# Altium footprint library Diode_PcbLib.PcbLib: 12 footprints
Each footprint in its own frame and in the unit in brackets; x right, y up, seen from the top. Pads: shape width x height; smd on the part's side, far side on the other; paste and mask are expansions set on the pad; w line width, h text height; cw(c..) or ccw(c..) is an arc to the next point about the centre after c.
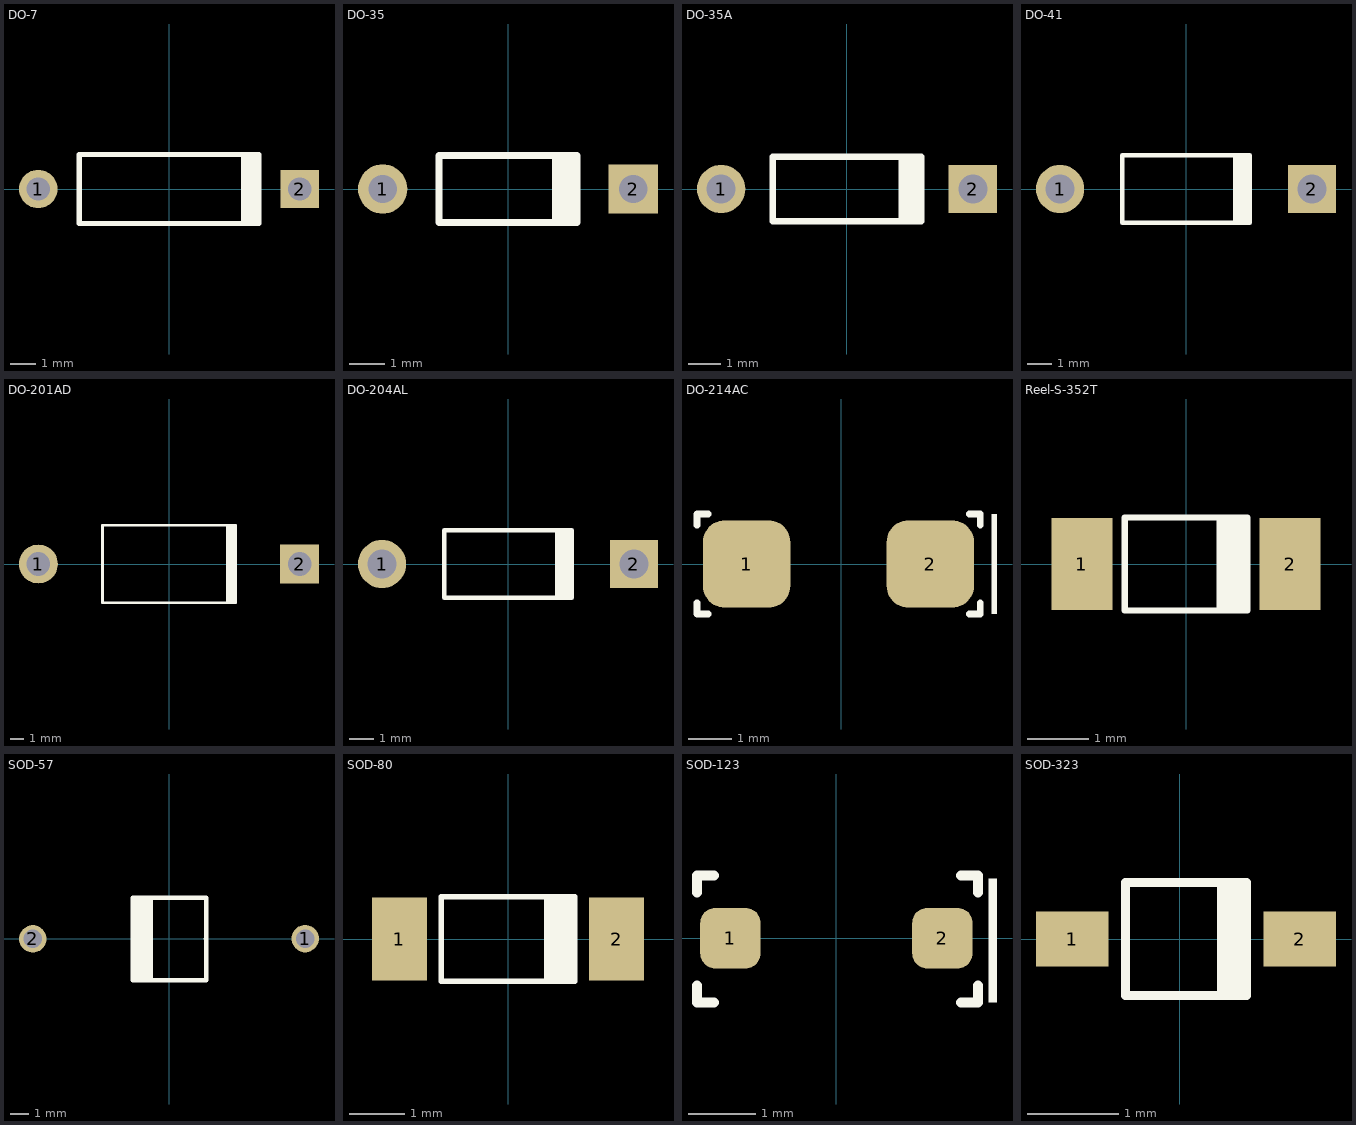
[diagram p0: the footprints below, top view; thin cyan lines are the x and y axes]

## DO-7 [mm] "Diode, Axial; Body 7 x 2.7 mm (LxDia. max), Lead Dia. 0.53 mm (max)"
height 2.7
pads (2):
  round 1.5 hole 0.9: 1(-5.1,0)
  rect 1.5x1.5 hole 0.9: 2(5.1,0)
Top Overlay:
  rectangle: 2.8,-1.35 3.6,1.35
  lines w0.2: 3.5,-1.35 -3.5,-1.35 -3.5,1.35 3.5,1.35

## DO-35 [mm] "Diode, Axial; Body 3.8 x 1.9 mm (LxDia. max), Lead Dia. 0.53 mm (max)"
height 1.9
pads (2):
  round 1.4 hole 0.8: 1(-3.55,0)
  rect 1.4x1.4 hole 0.8: 2(3.55,0)
Top Overlay:
  rectangle: 1.25,-0.95 2.05,0.95
  lines w0.2: 1.95,-0.95 -1.95,-0.95 -1.95,0.95 1.95,0.95
3D body: height 2, standoff -4.5, extent -3.75,-1 3.75,1

## DO-35A [mm] "Diode, Axial; Body 4.6 x 1.9 mm (LxDia. max), Lead Dia. 0.53 mm (max)"
height 2
pads (2):
  round 1.5 hole 0.9: 1(-3.9,0)
  rect 1.5x1.5 hole 0.9: 2(3.9,0)
Top Overlay:
  rectangle: 1.6,-1 2.4,1
  lines w0.2: 2.3,-1 -2.3,-1 -2.3,1 2.3,1

## DO-41 [mm] "Diode, Axial; Body 5.2 x 2.7 mm (LxDia. max), Lead Dia. 0.86 mm (max)"
height 2.8
pads (2):
  round 2 hole 1.2: 1(-5.23,0)
  rect 2x2 hole 1.2: 2(5.23,0)
Top Overlay:
  rectangle: 1.95,-1.4 2.75,1.4
  lines w0.2: 2.65,-1.4 -2.65,-1.4 -2.65,1.4 2.65,1.4
3D body: height 2.52, standoff -4.23, extent -5.8,-1.25 5.8,1.25

## DO-201AD [mm] "Diode, Axial; Body 9.5 x 5.6 mm (LxDia. max), Lead Dia. 1.32 mm (max)"
height 5.6
pads (2):
  round 2.8 hole 1.7: 1(-9.42,0)
  rect 2.8x2.8 hole 1.7: 2(9.42,0)
Top Overlay:
  rectangle: 4.1,-2.8 4.9,2.8
  lines w0.2: 4.8,-2.8 -4.8,-2.8 -4.8,2.8 4.8,2.8

## DO-204AL [mm] "Diode, Axial; Body 5.2 x 2.7 mm (LxDia. max), Lead Dia. 0.86 mm (max)"
height 2.7
pads (2):
  round 2 hole 1.2: 1(-5.23,0)
  rect 2x2 hole 1.2: 2(5.23,0)
Top Overlay:
  rectangle: 1.95,-1.4 2.75,1.4
  lines w0.2: 2.65,-1.4 -2.65,-1.4 -2.65,1.4 2.65,1.4
3D body: height 2.52, standoff -4.23, extent -5.8,-1.25 5.8,1.25

## DO-214AC [mm]
pads (2):
  rrect50% 2x2 smd: 1(-2.168,0) 2(2.032,0)
Top Overlay:
  rectangle: 3.429,-1.143 3.556,1.143
  lines w0.15: -3.302,-0.889 -3.302,-1.143 -3.048,-1.143 ; -3.302,0.889 -3.302,1.143 -3.048,1.143 ; 2.921,-1.143 3.175,-1.143 3.175,-0.889 ; 2.921,1.143 3.175,1.143 3.175,0.889
3D body: height 2.4, standoff 0, extent -2.6,-1.3 2.6,1.3

## Reel-S-352T [mm] "整體面積(3.5mm * 1.6mm), 材料部份(2.6mm * 1.6mm)"
pads (2):
  rect 1x1.5 smd: 1(-1.7,0) 2(1.7,0)
Top Overlay:
  rectangle: 0.5,-0.762 1,0.762
  lines w0.1: -1,-0.762 1,-0.762 1,0.762 -1,0.762 -1,-0.762
3D body: height 1.42, standoff -0.03, extent -1.925,-0.85 1.925,0.85

## SOD-57 [mm]
pads (2):
  round 1.5 hole 1: 1(7.404,0.013) 2(-7.442,0)
Top Overlay:
  rectangle: -1.994,-2.261 -0.902,2.248
  lines w0.254: 1.994,0 2.007,0.013 ; -1.994,-2.261 2.007,-2.261 2.007,2.248 -1.994,2.248 -1.994,-2.261
3D body: height 4.55, standoff -2.7, extent -8.175,-2.25 8.175,2.25

## SOD-80 [mm]
pads (2):
  rect 1x1.5 smd: 1(-1.968,0) 2(1.968,0)
Top Overlay:
  rectangle: 0.699,-0.762 0.953,0.762
  lines w0.1: 0.699,-0.762 0.699,0.762 ; 1.114,-0.75 1.114,0.762 ; -1.206,-0.762 -1.206,0.762 1.206,0.762 1.206,-0.762 -1.206,-0.762 ; 0.953,-0.762 0.953,0.762 1.024,0.691 1.024,-0.691 0.953,-0.762
3D body: height 1.6, standoff 0, extent -1.867,-0.8 1.834,0.8

## SOD-123 [mm]
pads (2):
  rrect50% 0.9x0.9 smd: 1(-1.575,0) 2(1.575,0)
Top Overlay:
  rectangle: 2.259,-0.956 2.386,0.887
  lines w0.15: -2.072,-0.702 -2.072,-0.956 -1.818,-0.956 ; -2.072,0.676 -2.072,0.93 -1.818,0.93 ; 1.851,-0.956 2.105,-0.956 2.105,-0.702 ; 1.851,0.93 2.105,0.93 2.105,0.676
3D body: height 1.42, standoff -0.03, extent -1.92,-0.863 1.93,0.837

## SOD-323 [mm]
pads (2):
  rect 0.8x0.6 smd: 1(-1.181,0) 2(1.319,0)
Top Overlay:
  rectangle: 0.457,-0.622 0.737,0.622
  lines w0.1: 0.457,-0.622 0.457,0.622 ; -0.597,-0.622 0.737,-0.622 0.737,0.622 -0.597,0.622 -0.597,-0.622
3D body: height 0.98, standoff -0.01, extent -1.18,-0.628 1.32,0.622